# Altium schematic symbol library FUSE_2PIN.SchLib: 1 symbol
Pins are listed as number, name and electrical type; pins without a type are passive.

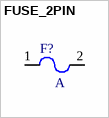
[diagram p0: symbol FUSE_2PIN]

## FUSE_2PIN
designator F?  Current Rating: A
=Description
pins: 1, 2 4